# Altium schematic symbol library IS-IG-1.SchLib: 1 symbol
Pins are listed as number, name and electrical type; pins without a type are passive.

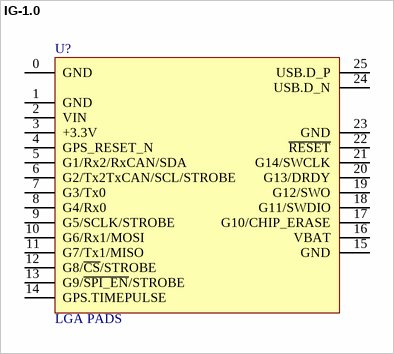
[diagram p0: symbol IG-1.0]

## IG-1.0
designator U?, comment LGA PADS
IMX multi-frequency RTK-GNSS Module
footprint IG-1.0_LGA (IMX multi-frequency RTK-GNSS Module)
pins: 0 GND, 1 GND, 2 VIN, 3 +3.3V, 4 GPS_RESET_N, 5 G1/Rx2/RxCAN/SDA, 6 G2/Tx2TxCAN/SCL/STROBE, 7 G3/Tx0, 8 G4/Rx0, 9 G5/SCLK/STROBE, 10 G6/Rx1/MOSI, 11 G7/Tx1/MISO, 12 G8/~{CS}/STROBE, 13 G9/~{SPI_EN}/STROBE, 14 GPS.TIMEPULSE, 15 GND, 16 VBAT, 17 G10/CHIP_ERASE, 18 G11/SWDIO, 19 G12/SWO, 20 G13/DRDY, 21 G14/SWCLK, 22 ~{RESET}, 23 GND, 24 USB.D_N, 25 USB.D_P